# EAGLE library part 62501021621 (library Wuerth_Elektronik_eiCan_Box_Header_&_IDC_Connectors_v1.2)
WR-BHD 2.00mm Male Box Header, 10 pins
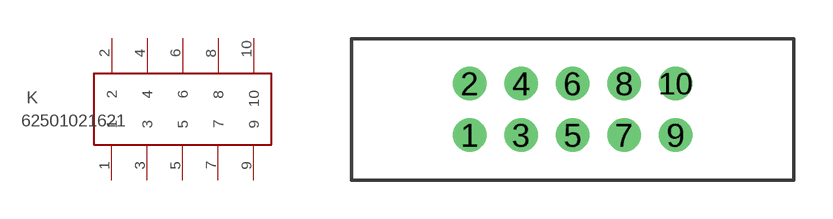
[diagram p0: symbol with the pads of 62501021621; footprint 62501021621]

Designator prefix K

## 62501021621  [62501021621]
1  1  pas
2  2  pas
3  3  pas
4  4  pas
5  5  pas
6  6  pas
7  7  pas
8  8  pas
9  9  pas
10  10  pas

## Footprint 62501021621 (pad centres in mm)
WR-BHD 2.00mm Male Box Header, 10 pins
drill 0.8 round: 1 -4,-1; 2 -4,1; 3 -2,-1; 4 -2,1; 5 0,-1; 6 0,1; 7 2,-1; 8 2,1; 9 4,-1; 10 4,1